# EAGLE library part ARDUINO-R3 (library mbed-HDK-Board&Enclosure)
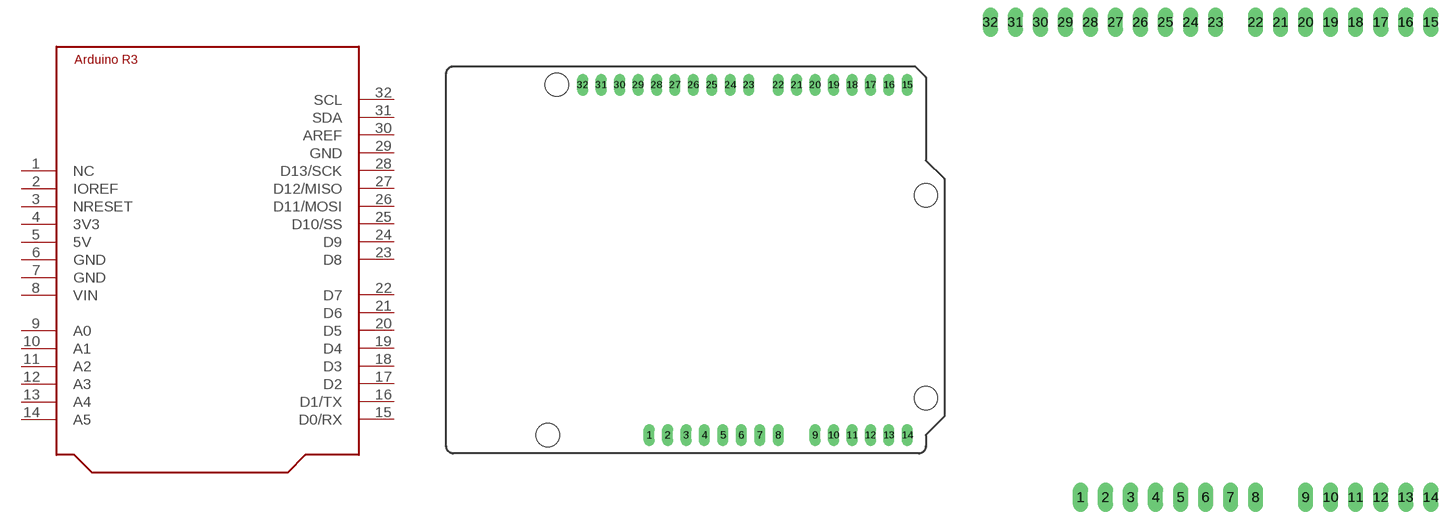
[diagram p2: symbol with the pads of ARDUINO-R3; footprints ARDUINO-R3, ARDUINO-R3-SILK]

Designator prefix BRD

## ARDUINO-R3  [ARDUINO-R3]
1  NC
2  IOREF
3  NRESET
4  3V3
5  5V
6  GND
7  GND
8  VIN
9  A0
10  A1
11  A2
12  A3
13  A4
14  A5
15  D0/RX
16  D1/TX
17  D2
18  D3
19  D4
20  D5
21  D6
22  D7
23  D8
24  D9
25  D10/SS
26  D11/MOSI
27  D12/MISO
28  D13/SCK
29  GND
30  AREF
31  SDA
32  SCL

## ARDUINO-R3_SILK  [ARDUINO-R3-SILK]
Pads as for ARDUINO-R3

## ARDUINO-R3_APPS  [ARDUINO-R3-APPS-SHEILD]
Pads as for ARDUINO-R3

## Footprint ARDUINO-R3 (pad centres in mm)
drill 1 long: 1 27.94,2.54; 2 30.48,2.54; 3 33.02,2.54; 4 35.56,2.54; 5 38.1,2.54; 6 40.64,2.54; 7 43.18,2.54; 8 45.72,2.54; 9 50.8,2.54; 10 53.34,2.54; 11 55.88,2.54; 12 58.42,2.54; 13 60.96,2.54; 14 63.5,2.54; 15 63.5,50.8; 16 60.96,50.8; 17 58.42,50.8; 18 55.88,50.8; 19 53.34,50.8; 20 50.8,50.8; 21 48.26,50.8; 22 45.72,50.8; 23 41.656,50.8; 24 39.116,50.8; 25 36.576,50.8; 26 34.036,50.8; 27 31.496,50.8; 28 28.956,50.8; 29 26.416,50.8; 30 23.876,50.8; 31 21.336,50.8; 32 18.796,50.8
hole 3.2 at 15.24,50.8
hole 3.2 at 66.04,35.56
hole 3.2 at 66.04,7.62
hole 3.2 at 13.97,2.54

## Footprint ARDUINO-R3-SILK (pad centres in mm)
drill 1 long: 1 27.94,2.54; 2 30.48,2.54; 3 33.02,2.54; 4 35.56,2.54; 5 38.1,2.54; 6 40.64,2.54; 7 43.18,2.54; 8 45.72,2.54; 9 50.8,2.54; 10 53.34,2.54; 11 55.88,2.54; 12 58.42,2.54; 13 60.96,2.54; 14 63.5,2.54; 15 63.5,50.8; 16 60.96,50.8; 17 58.42,50.8; 18 55.88,50.8; 19 53.34,50.8; 20 50.8,50.8; 21 48.26,50.8; 22 45.72,50.8; 23 41.656,50.8; 24 39.116,50.8; 25 36.576,50.8; 26 34.036,50.8; 27 31.496,50.8; 28 28.956,50.8; 29 26.416,50.8; 30 23.876,50.8; 31 21.336,50.8; 32 18.796,50.8

## Footprint ARDUINO-R3-APPS-SHEILD (pad centres in mm)
drill 1 long: 1 27.94,2.54; 2 30.48,2.54; 3 33.02,2.54; 4 35.56,2.54; 5 38.1,2.54; 6 40.64,2.54; 7 43.18,2.54; 8 45.72,2.54; 9 50.8,2.54; 10 53.34,2.54; 11 55.88,2.54; 12 58.42,2.54; 13 60.96,2.54; 14 63.5,2.54; 15 63.5,50.8; 16 60.96,50.8; 17 58.42,50.8; 18 55.88,50.8; 19 53.34,50.8; 20 50.8,50.8; 21 48.26,50.8; 22 45.72,50.8; 23 41.656,50.8; 24 39.116,50.8; 25 36.576,50.8; 26 34.036,50.8; 27 31.496,50.8; 28 28.956,50.8; 29 26.416,50.8; 30 23.876,50.8; 31 21.336,50.8; 32 18.796,50.8
hole 3.2 at 15.24,50.8
hole 3.2 at 13.97,2.54